# Altium schematic symbol library CAP 100uF 6.3V.Schlib: 1 symbol
Pins are listed as number, name and electrical type; pins without a type are passive.

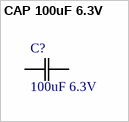
[diagram p0: symbol CAP 100uF 6.3V]

## CAP 100uF 6.3V
designator C?, comment 100uF 6.3V
CAP CER 100UF 6.3V X5R 1206; Tolerance: 20%; Package: 1206; Value: 100uF; Rating: 6.3V
footprint 1206
pins: 1 C1, 2 C2